# Altium footprint library CONNECTOR.PcbLib: 21 footprints (part 2 of 2)
Each footprint in its own frame and in the unit in brackets; x right, y up, seen from the top. Pads: shape width x height; smd on the part's side, far side on the other; paste and mask are expansions set on the pad; w line width, h text height; cw(c..) or ccw(c..) is an arc to the next point about the centre after c.
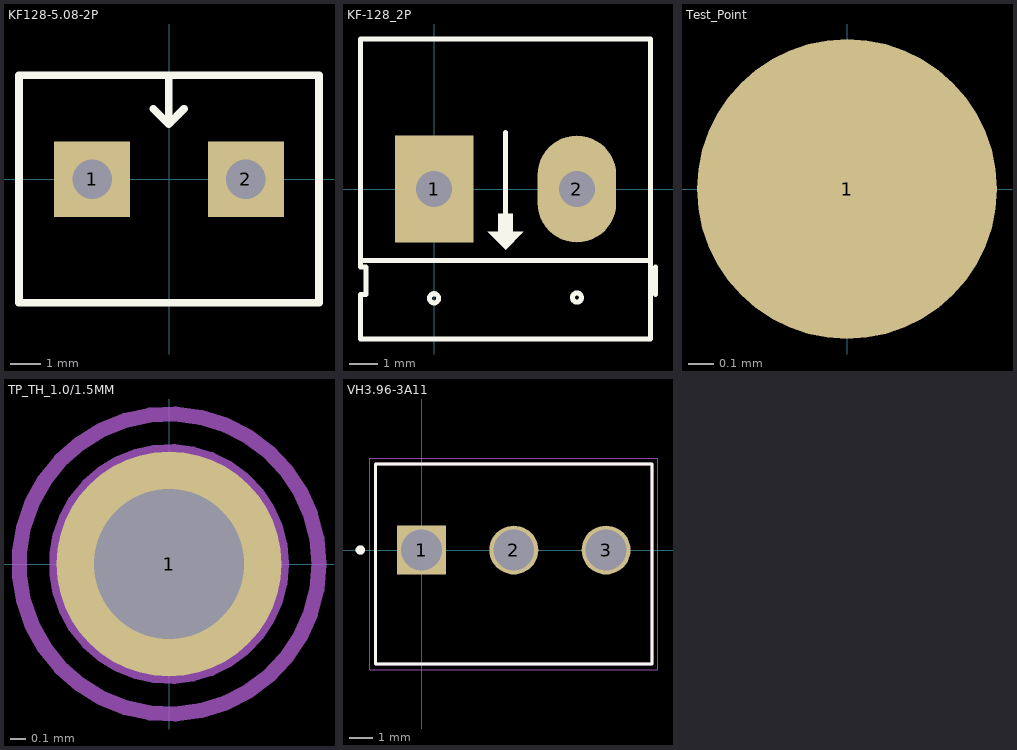
[diagram p1: the footprints below, top view; thin cyan lines are the x and y axes]

## KF128-5.08-2P [mm]
pads (2):
  rect 2.5x2.5 hole 1.3: 1(-2.54,0) 2(2.54,0)
Top Overlay:
  lines w0.254: -0.521,2.324 -0.013,1.816 ; -0.013,3.378 -0.013,1.816 ; 0.495,2.324 -0.013,1.816 ; -4.953,-4.077 -4.953,3.429 4.953,3.429 4.953,-4.077 -4.953,-4.077
Mechanical 29:
  text "'.Designator'" at -4.572,-0.635 h1.52
3D body "SW3DPS-HDR1x2-MED-GREEN.STEP": height 10, standoff -4, extent -5,-4.071 5,3.429

## KF-128_2P [mil]
height 300
pads (2):
  rect 110x149.61 hole 50: 1(0,0)
  oval 110x149.61 hole 50: 2(200,0)
Top Overlay:
  circle w7: c200,-152 r6.4
  circle w7: c0,-153 r6.4
  region: 100,-85 125,-60 110,-60 110,-35 90,-35 90,-60 75,-60
  lines w7: -99,-100 298,-100 ; 100,-72 100,79 ; 310,-148 310,-109 ; -103,-210 303,-210 303,210 -103,210 -103,-109 -95,-109 -95,-148 -103,-148 -103,-210
Mechanical 29:
  text "'.Designator'" at -71,-9.01 h60
3D body "User Library-KF128.STEP": height 562.99, standoff -196.85, extent 99.38,-205.69 323,207.69
3D body "User Library-KF128.STEP": height 562.99, standoff -196.85, extent -100.62,-206.69 123,206.69

## Test_Point [mm]
pads (1):
  round 1.2 smd paste-0.6: 1(0,0)

## TP_TH_1.0/1.5MM [mm]
pads (1):
  round 1.5 hole 1: 1(0,0)
Mechanical 15:
  circle w0.1: c0,0 r1
  lines w0.1: -0.254,0 0.254,0 ; 0,-0.254 0,0.254
Mechanical 29:
  circle w0.1: c0,0 r0.75
  text ".Designator" at -0.554,-0.221 h1.5

## VH3.96-3A11 [mm]
pads (3):
  rect 2.1x2.1 hole 1.75: 1(0,0)
  round 2.1 hole 1.75: 2(3.96,0) 3(7.92,0)
Top Overlay:
  circle w0.2: c-2.63,0 r0.1
  lines w0.127: -1.98,-4.9 -1.98,3.7 9.9,3.7 9.9,-4.9 -1.98,-4.9
Mechanical 15:
  lines w0.05: -2.23,-5.15 -2.23,3.95 10.15,3.95 10.15,-5.15 -2.23,-5.15
Mechanical 29:
  circle w0.2: c-2.63,0 r0.1
  lines w0.127: -1.98,-4.9 -1.98,3.7 9.9,3.7 9.9,-4.9 ; -1.98,-4.9 9.9,-4.9 ; -1.98,-4.9 9.9,-4.9
  text "'.Designator'" at -1.753,-3.81 h1.52
3D body "4-1744057-3.stp": height 11.51, standoff -3.09, extent -2.028,-4.794 9.852,3.806